# Altium footprint library AdaptWing.PcbLib: 24 footprints (part 1 of 2)
Each footprint in its own frame and in the unit in brackets; x right, y up, seen from the top. Pads: shape width x height; smd on the part's side, far side on the other; paste and mask are expansions set on the pad; w line width, h text height; cw(c..) or ccw(c..) is an arc to the next point about the centre after c.
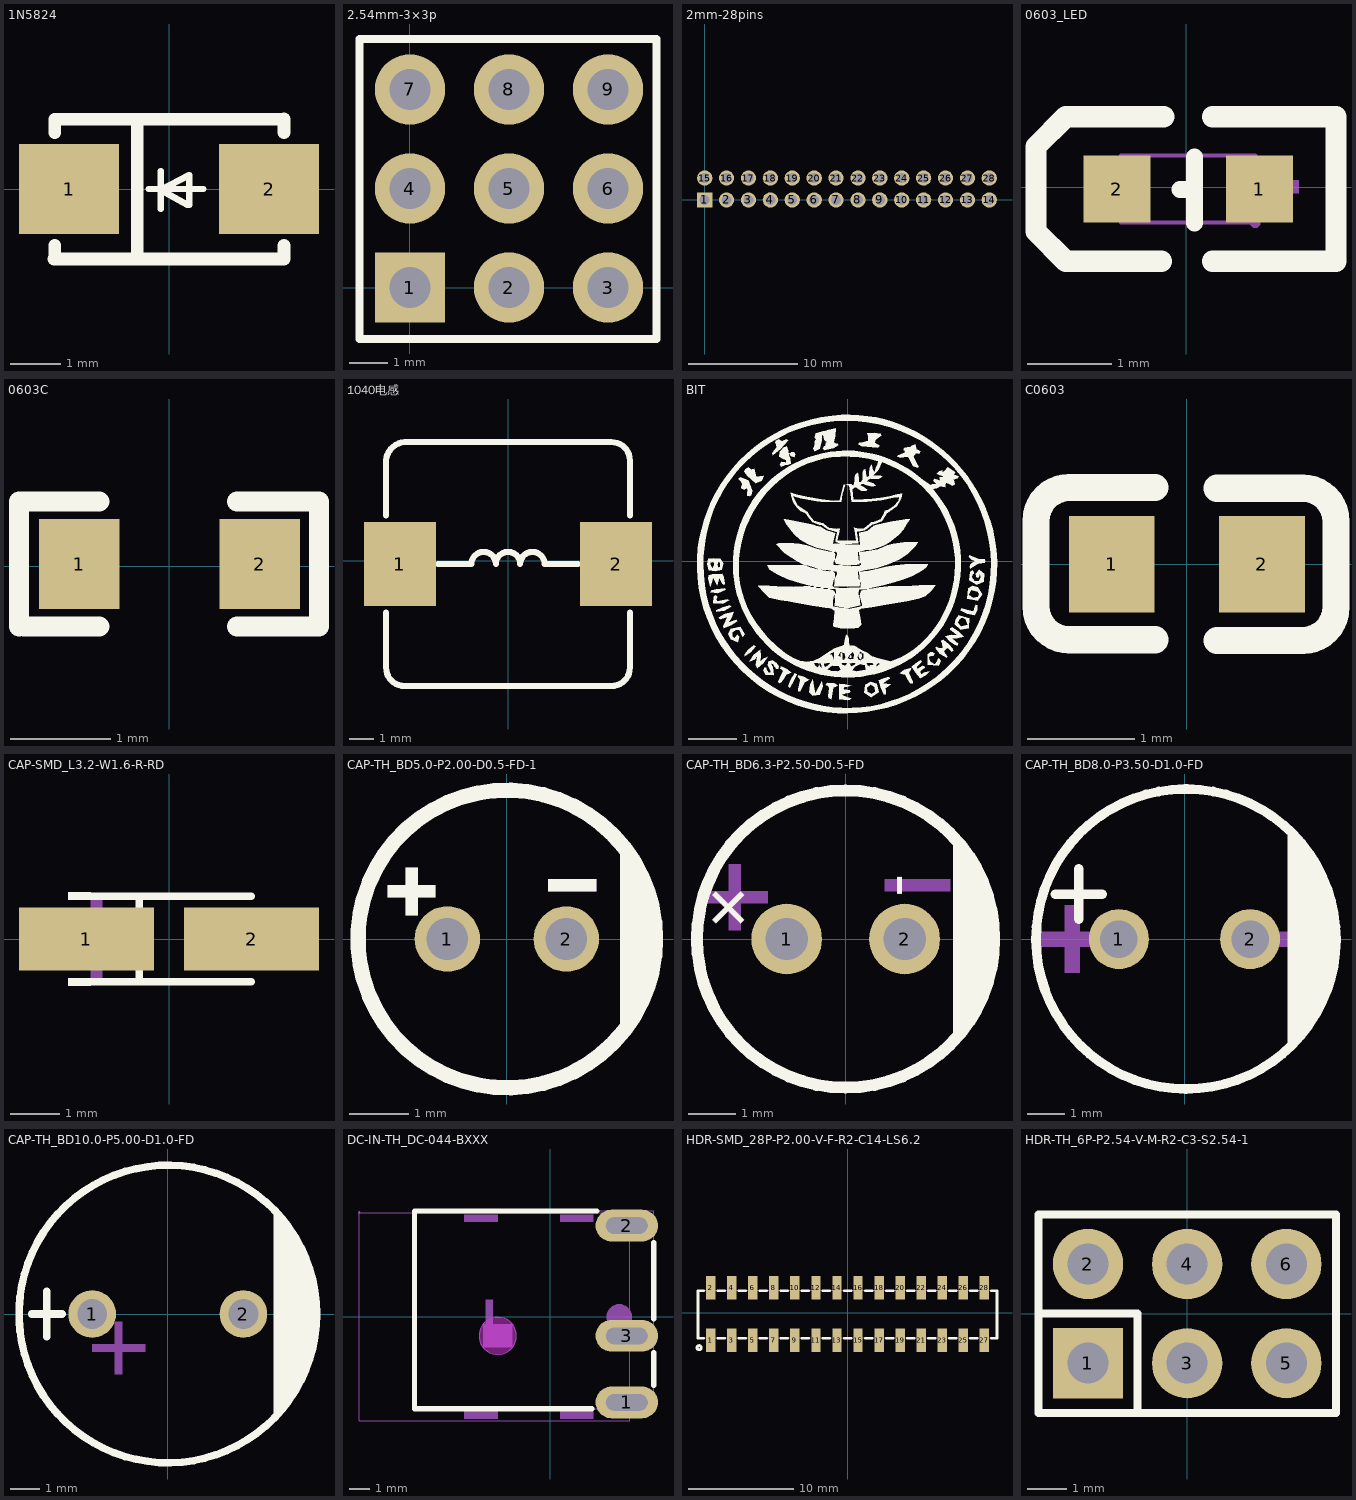
[diagram p0: the footprints below, top view; thin cyan lines are the x and y axes]

## 1N5824 [mm]
pads (2):
  rect 2x1.8 smd paste+0 mask+0.102: 1(-2,0) 2(2,0)
Top Overlay:
  lines w0.127: -0.406,0 0.686,0 ; -0.166,-0.401 -0.166,-0.02 ; -0.166,0.361 -0.166,-0.02 ; 0.376,-0.321 -0.166,-0.02 ; 0.406,-0.321 0.406,0.279 -0.166,-0.02
  lines w0.254: -2.3,-1.4 2.3,-1.4 2.3,-1.131 ; -2.286,-1.4 -2.286,-1.131 ; -2.286,1.131 -2.286,1.397 2.3,1.397 ; -0.635,-1.4 -0.635,1.397 ; 2.3,1.131 2.3,1.4
3D body "IN5824.step": height 1.06, standoff 0, extent -2.325,-1.3 2.325,1.3

## 2.54mm-3×3p [mm]
pads (9):
  rect 1.8x1.8 hole 1.05 paste+0 mask+0.051: 1(0,0)
  round 1.8 hole 1.05 paste+0 mask+0.051: 2(2.54,0) 3(5.08,0) 4(0,2.54) 5(2.54,2.54) 6(5.08,2.54) 7(0,5.08) 8(2.54,5.08) 9(5.08,5.08)
Top Overlay:
  lines w0.203: 1.456,-1.321 6.325,-1.321 ; 6.325,-1.321 6.325,6.375 -1.295,6.375 -1.295,-1.321 6.325,-1.321

## 2mm-28pins [mm]
pads (28):
  rect 1.4x1.4 hole 0.9 paste+0 mask+0.051: 1(0,0)
  round 1.4 hole 0.9 paste+0 mask+0.051: 2(2,0) 3(4,0) 4(6,0) 5(8,0) 6(10,0) 7(12,0) 8(14,0) 9(16,0) 10(18,0) 11(20,0) 12(22,0) 13(24,0) 14(26,0) 15(0,2) 16(2,2) 17(4,2) 18(6,2) 19(8,2) 20(10,2) 21(12,2) 22(14,2) 23(16,2) 24(18,2) 25(20,2) 26(22,2) 27(24,2) 28(26,2)

## 0603_LED [mm]
pads (2):
  rect 0.8x0.8 smd mask+0.051: 1(0.874,-0.019) 2(-0.828,-0.019)
Top Overlay:
  lines w0.203: -0.076,-0.027 0.099,-0.027 ; 0.099,-0.425 0.099,0.362
  lines w0.254: -0.295,-0.883 -1.438,-0.883 -1.793,-0.527 -1.793,0.489 -1.438,0.845 -0.269,0.845 ; 0.315,-0.883 1.788,-0.883 1.788,0.845 0.315,0.845
Mechanical 6:
  region: -1.171,0.031 -0.51,0.031 -0.51,-0.122 -1.171,-0.122
  region: 0.958,-0.294 0.958,0.366 1.111,0.366 1.111,-0.294
  region: 0.683,0.083 1.344,0.083 1.344,-0.07 0.683,-0.07
Mechanical 15:
  region: -0.777,-0.419 -0.777,0.381 -0.477,0.381 -0.477,-0.419
  region: 0.823,0.381 0.823,-0.419 0.523,-0.419 0.523,0.381
  region: 0.883,-0.419 0.883,-0.394 0.848,-0.359 0.798,-0.359 0.763,-0.394 0.763,-0.419 0.763,-0.444 0.798,-0.479 0.848,-0.479 0.883,-0.444 0.883,-0.419
  lines w0.051: -0.777,-0.419 -0.777,0.381 0.823,0.381 0.823,-0.419 -0.777,-0.419
3D body "LED.x_t": height 0.41, standoff 0, extent -0.711,-0.419 0.909,0.391

## 0603C [mm] "1.6mmx0.8mm"
height 0.5
pads (2):
  rect 0.8x0.9 smd: 1(-0.895,0.024) 2(0.905,0.024)
Top Overlay:
  lines w0.2: -1.495,-0.601 -1.495,0.649 -0.695,0.649 ; -1.443,-0.601 -0.695,-0.601 ; 0.678,-0.601 1.478,-0.601 ; 0.678,0.649 1.478,0.649 ; 1.495,-0.601 1.495,0.649
3D body "R0603.step": height 0.45, standoff 0, extent -0.81,-0.38 0.81,0.43

## 1040电感 [mm]
pads (2):
  rect 3x3.5 smd paste+0 mask+0.102: 1(-4.5,-0.127) 2(4.5,-0.127)
Top Overlay:
  lines w0.254: -5.08,-2.159 -5.08,-4.445 ccw(c-4.318,-4.445) -4.318,-5.207 4.318,-5.207 ccw(c4.318,-4.445) 5.08,-4.445 5.08,-2.159 ; -5.08,1.905 -5.08,4.191 cw(c-4.254,4.127) -4.318,4.953 4.318,4.953 cw(c4.318,4.191) 5.08,4.191 5.08,1.905 ; -2.921,-0.127 -1.524,-0.127 cw(c-1.016,-0.127) -0.508,-0.127 cw(c0,-0.127) 0.508,-0.127 cw(c1.016,-0.127) 1.524,-0.127 2.921,-0.127
3D body "SMD,6.6x7.2mm.step": height 3, standoff 0, extent -3.827,-3.442 3.573,3.158

## BIT [mm]
Top Overlay:
  drawing of 40 lines, arcs and shapes, not listed

## C0603 [mm]
pads (2):
  rect 0.8x0.9 smd paste+0 mask+0.051: 1(-0.7,0) 2(0.7,0)
Top Overlay:
  lines w0.254: -0.296,-0.704 -1.096,-0.704 cw(c-1.096,-0.394) -1.406,-0.394 -1.405,0.406 cw(c-1.096,0.406) -1.096,0.715 -0.296,0.715 ; 0.28,-0.71 1.08,-0.71 ccw(c1.08,-0.4) 1.39,-0.4 1.39,0.4 ccw(c1.08,0.4) 1.08,0.71 0.28,0.71
3D body "C0603.step": height 0.8, standoff 0, extent -0.8,-0.4 0.8,0.4

## CAP-SMD_L3.2-W1.6-R-RD [mm]
pads (2):
  rect 2.757x1.296 smd paste+0 mask+0.051: 1(-1.686,0) 2(1.686,0)
Top Overlay:
  region: -1.6,0.952 -1.6,0.8 -2.057,0.8 -2.057,0.952
  region: -1.6,-0.952 -1.6,-0.8 -2.057,-0.8 -2.057,-0.952
  lines w0.152: -1.676,-0.876 1.676,-0.876 ; -1.676,0.876 1.676,0.876 ; -0.604,-0.876 -0.604,0.876
Mechanical 15:
  region: -1.6,-0.8 -1.6,-0.4 -1.36,-0.4 -1.36,-0.8
  region: -1.6,0.8 -1.6,0.4 -1.36,0.4 -1.36,0.8
  region: -1.3,0.4 -1.3,-0.4 -1.18,-0.4 -1.18,0.4
  region: -1.48,0.06 -1.48,-0.06 -1,-0.06 -1,0.06
  region: 1.48,0.06 1.48,-0.06 1,-0.06 1,0.06
3D body "CAP-SMD_L3.2-W1.6-RD.step": height 1.06, standoff 0, extent -2.325,-1.3 2.325,1.3

## CAP-TH_BD5.0-P2.00-D0.5-FD-1 [mm]
pads (2):
  round 1.1 hole 0.7 paste+0 mask+0.05: 1(-1,0) 2(1,0)
Top Overlay:
  circle w0.254: c0,0 r2.5
  region: 1.905,1.651 1.905,-1.524 1.911,-1.518 2.061,-1.368 2.296,-1.017 2.458,-0.626 2.54,-0.211 2.54,0 2.54,0.171 2.54,0.341 2.473,0.676 2.343,0.992 2.153,1.276 2.032,1.397
  region: 0.8,1 1.5,1 1.5,0.8 0.7,0.8 0.7,1
  region: -1.9,0.9 -1.2,0.9 -1.2,0.7 -2,0.7 -2,0.9
  region: -1.7,0.5 -1.7,1.2 -1.5,1.2 -1.5,0.4 -1.7,0.4
Mechanical 15:
  region: -1.9,0.9 -1.2,0.9 -1.2,0.7 -2,0.7 -2,0.9
  region: -1.7,0.5 -1.7,1.2 -1.5,1.2 -1.5,0.4 -1.7,0.4
  region: 0.8,1 1.5,1 1.5,0.8 0.7,0.8 0.7,1
3D body "CAP-TH_BD5.0-P2.00-D0.5-FD-1.step": height 7, standoff -5, extent -2.5,-2.5 2.5,2.501

## CAP-TH_BD6.3-P2.50-D0.5-FD [mm]
pads (2):
  round 1.5 hole 0.9 paste+0 mask+0.05: 1(-1.25,0) 2(1.25,0)
Top Overlay:
  circle w0.254: c0,0 r3.15
  region: 2.286,-2.286 2.285,2.17 2.286,2.169 2.395,2.06 2.592,1.82 2.764,1.563 2.91,1.29 3.028,1.004 3.118,0.708 3.178,0.404 3.209,0.096 3.209,-0.059 3.209,-0.213 3.178,-0.521 3.118,-0.825 3.028,-1.121 2.91,-1.407 2.764,-1.68 2.592,-1.937 2.395,-2.177 2.286,-2.286
  lines w0.254: -3.15,0 cw(c0,0) 3.15,0 cw(c0,0) -3.15,0
  text "+" at -2.385,1.37 h1
  text "-" at 1.516,0.889 h1
Mechanical 15:
  region: -3.048,1.016 -1.651,1.016 -1.651,0.762 -3.048,0.762
  region: -2.476,0.191 -2.476,1.587 -2.222,1.587 -2.222,0.191
  region: 0.826,1.27 2.222,1.27 2.222,1.016 0.826,1.016
3D body "CAP-TH_BD6.3-P2.50-D0.5-FD.step": height 11.01, standoff -5, extent -3.162,-3.15 3.157,3.15

## CAP-TH_BD8.0-P3.50-D1.0-FD [mm]
pads (2):
  round 1.6 hole 1 paste+0 mask+0.051: 1(-1.75,0) 2(1.75,0)
Top Overlay:
  region: 2.75,-3 2.941,-2.8 3.268,-2.355 3.536,-1.872 3.741,-1.359 3.88,-0.824 3.95,-0.276 3.95,0.276 3.88,0.824 3.741,1.359 3.536,1.872 3.268,2.355 2.941,2.8 2.75,3
  lines w0.254: -3.445,1.2 -2.2,1.2 ; -2.822,0.527 -2.822,1.873 ; 0.003,4 ccw(c0.038,0.001) 0.074,4
Mechanical 15:
  region: 3.5,0.2 2.1,0.2 2.1,-0.2 3.7,-0.2 3.9,-0.2 3.9,0.2
  region: -2.5,0.2 -3.9,0.2 -3.9,-0.2 -2.3,-0.2 -2.1,-0.2 -2.1,0.2
  region: -3.2,0.5 -3.2,-0.9 -2.8,-0.9 -2.8,0.7 -2.8,0.9 -3.2,0.9
3D body "CAP-TH_BD8.0-P3.50-D1.0-FD.step": height 11.5, standoff -5, extent -4.073,-4 3.937,4

## CAP-TH_BD10.0-P5.00-D1.0-FD [mm]
pads (2):
  round 1.6 hole 1 paste+0 mask+0.051: 1(-2.54,0) 2(2.54,0)
Top Overlay:
  circle w0.254: c0,0 r5
  region: 3.556,3.556 3.556,-3.556 4.318,-2.54 4.826,-1.016 5.08,0.508 4.826,1.524
  lines w0.254: -4.572,0 -3.556,0 ; -4.064,-0.762 -4.064,0.762
Mechanical 15:
  region: -1.778,-0.762 -1.778,-2.032 -1.524,-2.032 -1.524,-0.254 -1.778,-0.254
  region: -2.54,-1.016 -0.762,-1.016 -0.762,-1.27 -2.54,-1.27
3D body "CAP-TH_BD10.0-P5.00-D1.0-FD.step": height 15.91, standoff -3.5, extent -4.93,-5 5.08,5

## DC-IN-TH_DC-044-BXXX [mm]
pads (3):
  oval 3x1.524 hole 0.8 slot 2 at 0 deg paste+0 mask+0.05: 1(3.683,-4.123) 2(3.683,4.377) 3(3.683,-0.923)
Top Overlay:
  lines w0.254: 1.998,-4.423 -6.517,-4.423 -6.517,5.077 2.242,5.077 ; 4.983,-3.305 4.983,-1.741 ; 4.983,-0.105 4.983,3.559
Keep-Out Layer:
  board cut-out: -1.617,-0.923 -1.617,-0.804 -1.678,-0.576 -1.797,-0.37 -1.964,-0.203 -2.17,-0.084 -2.398,-0.023 -2.635,-0.023 -2.864,-0.084 -3.069,-0.203 -3.237,-0.37 -3.356,-0.576 -3.417,-0.804 -3.417,-0.923 -3.417,-1.041 -3.356,-1.27 -3.237,-1.476 -3.069,-1.643 -2.864,-1.762 -2.635,-1.823 -2.398,-1.823 -2.17,-1.762 -1.964,-1.643 -1.797,-1.476 -1.678,-1.27 -1.617,-1.041 -1.617,-0.923
Mechanical 1:
  circle w0.005: c-2.517,-0.923 r0.9
Mechanical 6:
  region: -3.217,-0.373 -3.217,-1.473 -1.817,-1.473 -1.817,-0.373
Mechanical 15:
  region: 2.983,-4.273 4.383,-4.273 4.383,-3.973 2.983,-3.973
  region: 2.983,-1.073 4.383,-1.073 4.383,-0.773 2.983,-0.773
  region: 2.983,4.227 4.383,4.227 4.383,4.527 2.983,4.527
  region: 5.043,-4.423 5.043,-4.398 5.008,-4.363 4.958,-4.363 4.923,-4.398 4.923,-4.423 4.923,-4.448 4.958,-4.483 5.008,-4.483 5.043,-4.448 5.043,-4.423
  region: -9.113,5 -9.113,5.025 -9.148,5.06 -9.198,5.06 -9.233,5.025 -9.233,5 -9.233,4.975 -9.198,4.94 -9.148,4.94 -9.113,4.975 -9.113,5
  region: 3.924,0 3.924,0.119 3.833,0.34 3.664,0.509 3.444,0.6 3.205,0.6 2.985,0.509 2.816,0.34 2.725,0.119 2.725,0 2.725,-0.119 2.816,-0.34 2.985,-0.509 3.205,-0.6 3.444,-0.6 3.664,-0.509 3.833,-0.34 3.924,-0.119 3.924,0
  region: -4.125,4.9 -2.525,4.9 -2.525,4.55 -4.125,4.55
  region: 0.475,4.9 2.075,4.9 2.075,4.55 0.475,4.55
  region: 0.475,-4.55 2.075,-4.55 2.075,-4.9 0.475,-4.9
  region: -4.125,-4.55 -2.525,-4.55 -2.525,-4.9 -4.125,-4.9
  region: -3.099,0.8 -2.749,0.8 -2.749,-0.8 -3.099,-0.8
  lines w0.051: -9.173,-5 3.827,-5 3.827,5 -9.173,5 -9.173,-5 ; -6.517,-4.423 4.983,-4.423 4.983,5.077 -6.517,5.077 -6.517,-4.423
3D body "DC-IN-TH_DC-044-BXXX.step": height 7.1, standoff -2.6, extent -6.502,-4.428 4.998,5.082

## HDR-SMD_28P-P2.00-V-F-R2-C14-LS6.2 [mm]
pads (28):
  rect 0.89x2.2 smd paste+0 mask+0.051: 1(-13,-2.627) 2(-13,2.373) 3(-11,-2.627) 4(-11,2.373) 5(-9,-2.627) 6(-9,2.373) 7(-7,-2.627) 8(-7,2.373) 9(-5,-2.627) 10(-5,2.373) 11(-3,-2.627) 12(-3,2.373) 13(-1,-2.627) 14(-1,2.373) 15(1,-2.627) 16(1,2.373) 17(3,-2.627) 18(3,2.373) 19(5,-2.627) 20(5,2.373) 21(7,-2.627) 22(7,2.373) 23(9,-2.627) 24(9,2.373) 25(11,-2.627) 26(11,2.373) 27(13,-2.627) 28(13,2.373)
Top Overlay:
  circle w0.254: c-14.1,-3.327 r0.2
  lines w0.254: -13.676,-2.427 -14.2,-2.427 -14.2,2.073 -13.676,2.073 ; -12.324,-2.427 -11.676,-2.427 ; -12.324,2.073 -11.676,2.073 ; -10.324,-2.427 -9.676,-2.427 ; -10.324,2.073 -9.676,2.073 ; -8.324,-2.427 -7.676,-2.427 ; -8.324,2.073 -7.676,2.073 ; -6.324,-2.427 -5.676,-2.427 ; -6.324,2.073 -5.676,2.073 ; -4.324,-2.427 -3.676,-2.427 ; -4.324,2.073 -3.676,2.073 ; -2.324,-2.427 -1.676,-2.427 ; -2.324,2.073 -1.676,2.073 ; -0.324,-2.427 0.324,-2.427 ; -0.324,2.073 0.324,2.073 ; 1.676,-2.427 2.324,-2.427 ; 1.676,2.073 2.324,2.073 ; 3.676,-2.427 4.324,-2.427 ; 3.676,2.073 4.324,2.073 ; 5.676,-2.427 6.324,-2.427 ; 5.676,2.073 6.324,2.073 ; 7.676,-2.427 8.324,-2.427 ; 7.676,2.073 8.324,2.073 ; 9.676,-2.427 10.324,-2.427 ; 9.676,2.073 10.324,2.073 ; 11.676,-2.427 12.324,-2.427 ; 11.676,2.073 12.324,2.073 ; 13.676,-2.427 14.2,-2.427 14.2,2.073 13.676,2.073
Mechanical 15:
  drawing of 33 lines, arcs and shapes, not listed
3D body "HDR-SMD_28P-P2.00-V-F-R2-C14-LS6.2.step": height 4.6, standoff 0, extent -14.2,-3.227 14.2,2.973

## HDR-TH_6P-P2.54-V-M-R2-C3-S2.54-1 [mm]
pads (6):
  rect 1.8x1.8 hole 1.05 paste+0 mask+0.051: 1(-2.54,-1.27)
  round 1.8 hole 1.05 paste+0 mask+0.051: 2(-2.54,1.27) 3(0,-1.27) 4(0,1.27) 5(2.54,-1.27) 6(2.54,1.27)
Top Overlay:
  lines w0.203: -3.81,0.002 -1.27,0.002 -1.27,-2.54 ; -1.058,-2.54 3.81,-2.54 ; 3.81,-2.54 3.81,2.54 -3.81,2.54 -3.81,-2.54 3.81,-2.54
Mechanical 15:
  region: -3.75,-2.5 -3.75,-2.475 -3.785,-2.44 -3.835,-2.44 -3.87,-2.475 -3.87,-2.5 -3.87,-2.525 -3.835,-2.56 -3.785,-2.56 -3.75,-2.525 -3.75,-2.5
  region: -2.86,1.59 -2.22,1.59 -2.22,0.95 -2.86,0.95
  region: -2.86,-0.95 -2.22,-0.95 -2.22,-1.59 -2.86,-1.59
  region: -0.32,-0.95 0.32,-0.95 0.32,-1.59 -0.32,-1.59
  region: -0.32,1.59 0.32,1.59 0.32,0.95 -0.32,0.95
  region: 2.22,1.59 2.86,1.59 2.86,0.95 2.22,0.95
  region: 2.22,-0.95 2.86,-0.95 2.86,-1.59 2.22,-1.59
  lines w0.051: -3.81,-2.5 -3.81,2.5 3.81,2.5 3.81,-2.5 -3.81,-2.5
3D body "HDR-TH_6P-P2.54-V-M-R2-C3-S2.54-1.step": height 8.5, standoff -3, extent -3.81,-2.54 3.81,2.54